# Altium footprint library Control_Module_Footprints.PcbLib: 19 footprints (part 1 of 2)
Each footprint in its own frame and in the unit in brackets; x right, y up, seen from the top. Pads: shape width x height; smd on the part's side, far side on the other; paste and mask are expansions set on the pad; w line width, h text height; cw(c..) or ccw(c..) is an arc to the next point about the centre after c.
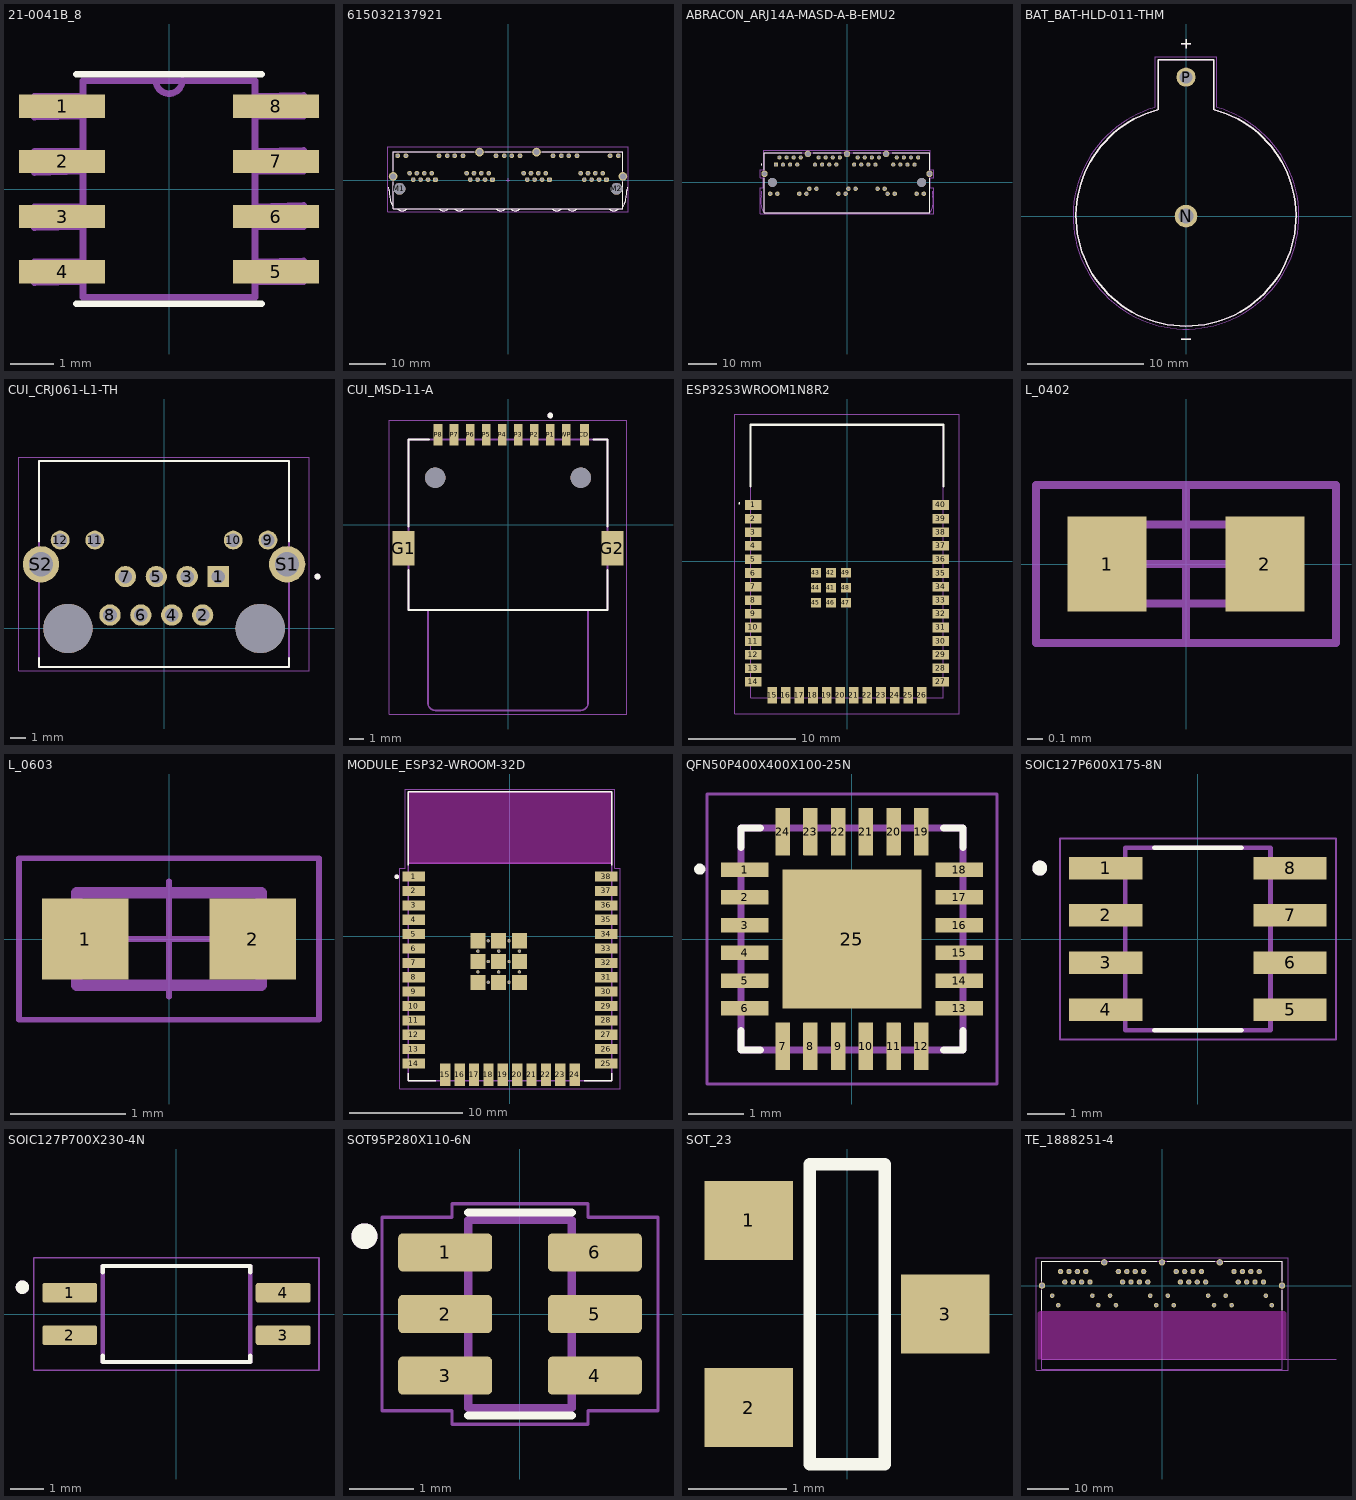
[diagram p0: the footprints below, top view; thin cyan lines are the x and y axes]

## 21-0041B_8 [mil]
pads (8):
  rect 78x21 smd: 1(-97,75) 2(-97,25) 3(-97,-25) 4(-97,-75) 5(97,-75) 6(97,-25) 7(97,25) 8(97,75)
Top Overlay:
  lines w6: -84,-104 84,-104 ; -84,104 84,104
Mechanical 13:
  lines w6: -12,98.08 ccw(c0,98.5) 12,98.92 ; -122,-85 -78,-84 -78,-66 -122,-66 -122,-85 ; -122,-35 -78,-34 -78,-16 -122,-16 -122,-35 ; -122,15 -78,16 -78,34 -122,34 -122,15 ; -122,65 -78,66 -78,84 -122,84 -122,65 ; -78,-98 -78,98 -12,98 78,98 78,-98 -78,-98 ; 78,-84 122,-84 122,-65 78,-66 78,-84 ; 78,-34 122,-34 122,-15 78,-16 78,-34 ; 78,16 122,16 122,35 78,34 78,16 ; 78,66 122,66 122,85 78,84 78,66
3D body "step_temp.STEP": height 68.9, standoff 0, extent -118.11,-96.46 118.11,96.46

## 615032137921 [mm] "Modular Jack Horizontal Shielded Ganged 4 Ports with LED and EMI Panel Finger 8P8C Tab Up"
height 13.25
pads (54):
  rrect50% 1.3x1.3 hole 0.8: A1(-20.055,0.125) B1(-4.305,0.125) C1(11.445,0.125) D1(27.195,0.125)
  round 1.3 hole 0.8: A2(-21.075,1.905) A3(-22.095,0.125) A4(-23.115,1.905) A5(-24.135,0.125) A6(-25.155,1.905) A7(-26.175,0.125) A8(-27.195,1.905) A9(-16.765,6.725) A10(-19.055,6.725) A11(-28.195,6.725) A12(-30.485,6.725) B2(-5.325,1.905) B3(-6.345,0.125) B4(-7.365,1.905) B5(-8.385,0.125) B6(-9.405,1.905) B7(-10.425,0.125) B8(-11.445,1.905) B9(-1.015,6.725) B10(-3.305,6.725) B11(-12.445,6.725) B12(-14.735,6.725) C2(10.425,1.905) C3(9.405,0.125) C4(8.385,1.905) C5(7.365,0.125) C6(6.345,1.905) C7(5.325,0.125) C8(4.305,1.905) C9(14.735,6.725) C10(12.445,6.725) C11(3.305,6.725) C12(1.015,6.725) D2(26.175,1.905) D3(25.155,0.125) D4(24.135,1.905) D5(23.115,0.125) D6(22.095,1.905) D7(21.075,0.125) D8(20.055,1.905) D9(30.485,6.725) D10(28.195,6.725) D11(19.055,6.725) D12(16.765,6.725)
  round 3.25 hole 3.25 unplated: M1(-29.975,-2.415) M2(29.975,-2.415)
  round 2.4 hole 1.6: Shell(-31.75,1.015) Shell(-7.875,7.745) Shell(7.875,7.745) Shell(31.75,1.015)
Top Overlay:
  lines w0.2: -32.974,-1.922 cw(c-35.604,-2.812) -32.835,-3.01 ccw(c-27.155,-3.233) -32.729,-4.348 ccw(c-25.166,-3.555) -32.164,-6.529 cw(c-36.451,-9.075) -31.755,-7.4 ; -31.755,-0.475 -31.755,-7.875 31.755,-7.875 31.755,-0.475 ; -31.755,2.505 -31.755,7.875 -9.355,7.875 ; -30.58,-7.875 ccw(c-29.215,-6.51) -27.85,-7.875 ; -19.15,-7.875 ccw(c-17.785,-6.51) -16.42,-7.875 ; -14.83,-7.875 ccw(c-13.465,-6.51) -12.1,-7.875 ; -6.395,7.875 6.395,7.875 ; -3.4,-7.875 ccw(c-2.035,-6.51) -0.67,-7.875 ; 0.67,-7.875 ccw(c2.035,-6.51) 3.4,-7.875 ; 9.355,7.875 31.755,7.875 31.755,2.505 ; 12.1,-7.875 ccw(c13.465,-6.51) 14.83,-7.875 ; 16.42,-7.875 ccw(c17.785,-6.51) 19.15,-7.875 ; 27.85,-7.875 ccw(c29.215,-6.51) 30.58,-7.875 ; 31.755,-7.4 cw(c36.451,-9.075) 32.164,-6.529 ccw(c25.166,-3.555) 32.729,-4.348 ccw(c27.155,-3.233) 32.835,-3.01 cw(c35.604,-2.812) 32.974,-1.922
Top Courtyard:
  lines w0.05: -33.15,-8.74 -33.15,9.145 33.15,9.145 33.15,-8.74 -33.15,-8.74
Top Designator:
  text ".Designator" at -7.498,-0.5 h1.5
Top Component Outline:
  lines w0.1: -32.974,-1.922 cw(c-35.604,-2.812) -32.835,-3.01 ccw(c-27.155,-3.233) -32.729,-4.348 ccw(c-25.166,-3.555) -32.164,-6.529 cw(c-36.451,-9.075) -31.755,-7.4 ; -30.58,-7.875 ccw(c-29.215,-6.51) -27.85,-7.875 ; -19.15,-7.875 ccw(c-17.785,-6.51) -16.42,-7.875 ; -14.83,-7.875 ccw(c-13.465,-6.51) -12.1,-7.875 ; -3.4,-7.875 ccw(c-2.035,-6.51) -0.67,-7.875 ; 0.67,-7.875 ccw(c2.035,-6.51) 3.4,-7.875 ; 12.1,-7.875 ccw(c13.465,-6.51) 14.83,-7.875 ; 16.42,-7.875 ccw(c17.785,-6.51) 19.15,-7.875 ; 27.85,-7.875 ccw(c29.215,-6.51) 30.58,-7.875 ; 31.755,-7.4 cw(c36.451,-9.075) 32.164,-6.529 ccw(c25.166,-3.555) 32.729,-4.348 ccw(c27.155,-3.233) 32.835,-3.01 cw(c35.604,-2.812) 32.974,-1.922 ; -31.755,-7.875 31.755,-7.875 31.755,7.875 -31.755,7.875 -31.755,-7.875
Top Component Center:
  lines w0.05: -0.5,0 0.5,0 ; 0,-0.5 0,0.5
3D body "615032137921 (rev1).stp": height 14.82, standoff -3.3, extent -33.065,-8.54 33.065,8.05

## ABRACON_ARJ14A-MASD-A-B-EMU2 [mm]
pads (55):
  rect 1.5x1.5 / inner round 1.5 / far side rect 1.5x1.5 hole 0.9: 1_1(-25.4,6.35)
  round 1.5 hole 0.9: 1_2(-11.43,6.35) 1_3(2.54,6.35) 1_4(16.51,6.35) 2_1(-24.13,8.89) 2_2(-10.16,8.89) 2_3(3.81,8.89) 2_4(17.78,8.89) 3_1(-22.86,6.35) 3_2(-8.89,6.35) 3_3(5.08,6.35) 3_4(19.05,6.35) 4_1(-21.59,8.89) 4_2(-7.62,8.89) 4_3(6.35,8.89) 4_4(20.32,8.89) 5_1(-20.32,6.35) 5_2(-6.35,6.35) 5_3(7.62,6.35) 5_4(21.59,6.35) 6_1(-19.05,8.89) 6_2(-5.08,8.89) 6_3(8.89,8.89) 6_4(22.86,8.89) 7_1(-17.78,6.35) 7_2(-3.81,6.35) 7_3(10.16,6.35) 7_4(24.13,6.35) 8_1(-16.51,8.89) 8_2(-2.54,8.89) 8_3(11.43,8.89) 8_4(25.4,8.89)
  round 1.6 hole 1: GA_1(-27.42,-4.06) GA_2(-13.45,-2.28) GA_3(0.52,-2.28) GA_4(14.49,-4.06) GK_1(-24.88,-4.06) GK_2(-10.91,-2.28) GK_3(3.06,-2.28) GK_4(17.03,-4.06) YA_1(-17.03,-4.06) YA_2(-3.06,-4.06) YA_3(10.91,-2.28) YA_4(24.88,-4.06) YK_1(-14.49,-4.06) YK_2(-0.52,-4.06) YK_3(13.45,-2.28) YK_4(27.42,-4.06)
  round 2.3 hole 1.7: P1(-29.465,3.05) P2(29.465,3.05) S1(-13.97,10.16) S2(0,10.16) S3(13.97,10.16)
  round 3.2 hole 3.2 unplated: ""(-26.67,0) ""(26.67,0)
Top Overlay:
  circle w0.2: c-30.5,6.35 r0.1
  lines w0.127: -29.56,1.5 -29.56,-10.9 29.56,-10.9 29.56,1.5 ; -29.56,4.55 -29.56,10.6 -16.245,10.6 ; -12,10.6 -2,10.6 ; 2.275,10.6 12,10.6 ; 16.245,10.6 29.56,10.6 29.56,4.55
Mechanical 13:
  circle w0.2: c-30.5,6.35 r0.1
  lines w0.127: -30.627,-4.704 ccw(c-21.073,-6.561) -30.275,-9.729 ; -30.616,-4.654 ccw(c-41.968,-2.241) -30.449,-3.656 ; -30.571,-3.274 cw(c-30.849,-3.572) -30.445,-3.622 ; -30.27,-9.745 -29.56,-10.9 ; 30.27,-9.745 29.56,-10.9 ; 30.275,-9.729 ccw(c21.073,-6.561) 30.627,-4.704 ; 30.445,-3.622 cw(c30.849,-3.572) 30.571,-3.274 ; 30.449,-3.656 ccw(c41.968,-2.241) 30.616,-4.654 ; -29.56,-10.9 -29.56,10.6 29.56,10.6 29.56,-10.9 ; -29.56,-10.9 29.56,-10.9
Mechanical 15:
  lines w0.05: -31,-11.15 -31,-1.95 -30,-1.95 -30,1.65 -30.9,1.65 -30.9,4.45 -29.81,4.45 -29.81,5.1 -29.81,11.56 29.81,11.56 29.81,4.45 30.9,4.45 30.9,1.65 29.81,1.65 29.81,-1.95 31,-1.95 31,-11.15 -31,-11.15
3D body "step_temp.STEP": height 9.12, standoff -10.21, extent -32.692,-10.75 32.692,10.75

## BAT_BAT-HLD-011-THM [mm]
pads (2):
  round 1.95 hole 1.3: N(0,0)
  round 1.65 hole 1.1: P(0,12)
Top Overlay:
  lines w0.127: -2.459,9.176 ccw(c0,0) 2.459,9.176 ; -2.4,9.192 -2.4,13.5 2.4,13.5 2.4,9.192 ; -0.4,-10.608 0.4,-10.608 ; -0.4,14.892 0.4,14.892 ; 0,14.492 0,15.292
Mechanical 13:
  lines w0.127: -2.459,9.176 ccw(c0,0) 2.459,9.176 ; -2.4,9.192 -2.4,13.5 2.4,13.5 2.4,9.192 ; -0.4,-10.608 0.4,-10.608 ; -0.4,14.892 0.4,14.892 ; 0,14.492 0,15.292
Mechanical 15:
  lines w0.05: -2.687,9.372 ccw(c0,0) 2.687,9.372 ; -2.65,9.383 -2.65,13.75 2.65,13.75 2.65,9.383
3D body "step_temp.STEP": height 6.6, standoff -5.1, extent -9.499,-9.5 9.499,13.5

## CUI_CRJ061-L1-TH [mm]
height 16.43
pads (16):
  rect 1.408x1.408 / inner round 1.408 / far side rect 1.408x1.408 hole 0.9: 1(3.57,3.43)
  round 1.408 hole 0.9: 2(2.55,0.89) 3(1.53,3.43) 4(0.51,0.89) 5(-0.51,3.43) 6(-1.53,0.89) 7(-2.55,3.43) 8(-3.57,0.89)
  round 1.25 hole 0.9: 9(6.86,5.84) 10(4.57,5.84) 11(-4.57,5.84) 12(-6.86,5.84)
  round 2.4 hole 1.6: S1(8.13,4.24) S2(-8.13,4.24)
  round 3.25 hole 3.25 unplated: ""(-6.35,0) ""(6.35,0)
Top Overlay:
  circle w0.2: c10.135,3.43 r0.1
  lines w0.127: -8.25,-1.945 -8.25,-2.54 8.25,-2.54 8.25,-1.945 ; -8.25,5.76 -8.25,11.06 8.25,11.06 8.25,5.76
Mechanical 13:
  circle w0.2: c10.135,3.43 r0.1
  lines w0.127: -8.25,-2.54 8.25,-2.54 8.25,11.06 -8.25,11.06 -8.25,-2.54
Mechanical 15:
  lines w0.05: -9.58,-2.79 -9.58,11.31 9.58,11.31 9.58,-2.79 -9.58,-2.79
3D body "step_temp.STEP": height 16.28, standoff -4, extent -8.4,-2.54 8.4,11.06

## CUI_MSD-11-A [mm] "JLCPCB PART C693845"
height 2.05
pads (14):
  rect 0.6x1.5 smd: CD(5.25,6.18) P1(2.9,6.18) P2(1.8,6.18) P3(0.7,6.18) P4(-0.4,6.18) P5(-1.5,6.18) P6(-2.6,6.18) P7(-3.7,6.18) P8(-4.8,6.18) WP(4,6.18)
  rect 1.5x2.34 smd: G1(-7.17,-1.62) G2(7.17,-1.62)
  round 1.4 hole 1.4 unplated: ""(-5,3.23) ""(5,3.23)
Top Overlay:
  circle w0.2: c2.9,7.5 r0.1
  lines w0.127: -6.84,-3.11 -6.84,-5.85 6.84,-5.85 6.84,-3.11 ; -6.84,-0.12 -6.84,5.85 -5.42,5.85 ; 5.87,5.85 6.84,5.85 6.84,-0.12
Mechanical 13:
  circle w0.2: c2.9,7.5 r0.1
  lines w0.127: -5.5,-5.85 -5.5,-12.25 ccw(c-5,-12.25) -5,-12.75 5,-12.75 ccw(c5,-12.25) 5.5,-12.25 5.5,-5.85 ; -5.5,-5.85 -6.84,-5.85 -6.84,5.85 6.84,5.85 6.84,-5.85 5.5,-5.85 ; -5.5,-5.85 5.5,-5.85
Mechanical 15:
  lines w0.05: -8.17,-13 -8.17,7.18 8.17,7.18 8.17,-13 -8.17,-13
3D body "step_temp.STEP": height 7.2, standoff 4.85, extent -7.39,-6.3 7.39,6.3

## ESP32S3WROOM1N8R2 [mm]
pads (49):
  rect 1.5x0.9 smd: 1(-8.75,5.26) 2(-8.75,3.99) 3(-8.75,2.72) 4(-8.75,1.45) 5(-8.75,0.18) 6(-8.75,-1.09) 7(-8.75,-2.36) 8(-8.75,-3.63) 9(-8.75,-4.9) 10(-8.75,-6.17) 11(-8.75,-7.44) 12(-8.75,-8.71) 13(-8.75,-9.98) 14(-8.75,-11.25) 27(8.75,-11.25) 28(8.75,-9.98) 29(8.75,-8.71) 30(8.75,-7.44) 31(8.75,-6.17) 32(8.75,-4.9) 33(8.75,-3.63) 34(8.75,-2.36) 35(8.75,-1.09) 36(8.75,0.18) 37(8.75,1.45) 38(8.75,2.72) 39(8.75,3.99) 40(8.75,5.26)
  rect 0.9x1.5 smd: 15(-6.985,-12.5) 16(-5.715,-12.5) 17(-4.445,-12.5) 18(-3.175,-12.5) 19(-1.905,-12.5) 20(-0.635,-12.5) 21(0.635,-12.5) 22(1.905,-12.5) 23(3.175,-12.5) 24(4.445,-12.5) 25(5.715,-12.5) 26(6.985,-12.5)
  rect 0.9x0.9 smd: 41(-1.5,-2.46) 42(-1.5,-1.06) 43(-2.9,-1.06) 44(-2.9,-2.46) 45(-2.9,-3.86) 46(-1.5,-3.86) 47(-0.1,-3.86) 48(-0.1,-2.46) 49(-0.1,-1.06)
Top Overlay:
  lines w0.1: -10.1,5.4 cw(c-10.05,5.4) -10,5.4 cw(c-10.05,5.4) -10.1,5.4
  lines w0.2: -9,7 -9,12.75 9,12.75 9,7
Mechanical 13:
  lines w0.1: -10.5,-14.25 10.5,-14.25 10.5,13.75 -10.5,13.75 -10.5,-14.25 ; -9,-12.75 9,-12.75 9,12.75 -9,12.75 -9,-12.75
3D body "step_temp.STEP": height 3.25, standoff 0, extent -9,-12.75 9,12.75

## L_0402 [mm]
height 0.5
pads (2):
  rect 0.5x0.6 smd: 1(-0.5,0) 2(0.5,0)
Top Courtyard:
  lines w0.05: -0.5,0 0.5,0 ; 0,-0.5 0,0.5 ; -0.95,-0.5 0.95,-0.5 0.95,0.5 -0.95,0.5 -0.95,-0.5
Top Designator:
  text ".Designator" at -2.499,-0.167 h0.5
Top Component Outline:
  lines w0.05: -0.5,-0.25 0.5,-0.25 0.5,0.25 -0.5,0.25 -0.5,-0.25
3D body "WE-CBF_HF_0402_1.stp": height 0.5, standoff 0, extent -0.5,-0.25 0.5,0.25

## L_0603 [mm]
height 0.8
pads (2):
  rect 0.75x0.7 smd: 1(-0.725,0) 2(0.725,0)
Top Courtyard:
  lines w0.05: -0.5,0 0.5,0 ; 0,-0.5 0,0.5 ; -1.3,-0.7 -1.3,0.7 1.3,0.7 1.3,-0.7 -1.3,-0.7
Top Designator:
  text ".Designator" at -2.499,-0.167 h0.5
Top Component Outline:
  lines w0.1: -0.8,-0.4 -0.8,0.4 0.8,0.4 0.8,-0.4 -0.8,-0.4
3D body "WE-CBF_HF_0603_1.stp": height 0.8, standoff 0, extent -0.8,-0.4 0.8,0.4

## MODULE_ESP32-WROOM-32D [mm]
height 3.2
pads (59):
  rect 2x0.9 smd: 1(-8.5,5.26) 2(-8.5,3.99) 3(-8.5,2.72) 4(-8.5,1.45) 5(-8.5,0.18) 6(-8.5,-1.09) 7(-8.5,-2.36) 8(-8.5,-3.63) 9(-8.5,-4.9) 10(-8.5,-6.17) 11(-8.5,-7.44) 12(-8.5,-8.71) 13(-8.5,-9.98) 14(-8.5,-11.25) 25(8.5,-11.25) 26(8.5,-9.98) 27(8.5,-8.71) 28(8.5,-7.44) 29(8.5,-6.17) 30(8.5,-4.9) 31(8.5,-3.63) 32(8.5,-2.36) 33(8.5,-1.09) 34(8.5,0.18) 35(8.5,1.45) 36(8.5,2.72) 37(8.5,3.99) 38(8.5,5.26)
  rect 0.9x2 smd: 15(-5.715,-12.25) 16(-4.445,-12.25) 17(-3.175,-12.25) 18(-1.905,-12.25) 19(-0.635,-12.25) 20(0.635,-12.25) 21(1.905,-12.25) 22(3.175,-12.25) 23(4.445,-12.25) 24(5.715,-12.25)
  rect 1.33x1.33 smd: 39_1(-2.835,-0.405) 39_2(-1,-0.405) 39_3(0.835,-0.405) 39_4(-2.835,-2.24) 39_5(-1,-2.24) 39_6(0.835,-2.24) 39_7(-2.835,-4.075) 39_8(-1,-4.075) 39_9(0.835,-4.075)
  round 0.3 hole 0.2: 39_10(-1.917,-0.405) 39_11(-0.082,-0.405) 39_12(-2.835,-1.322) 39_13(-1,-1.322) 39_14(0.835,-1.322) 39_15(-1.917,-2.24) 39_16(-0.082,-2.24) 39_17(-2.835,-3.157) 39_18(-1,-3.157) 39_19(0.835,-3.157) 39_20(-1.917,-4.075) 39_21(-0.082,-4.075)
Top Overlay:
  circle w0.2: c-10,5.25 r0.1
  lines w0.127: -9,-12.1 -9,-12.75 -6.55,-12.75 ; -9,6.25 -9,12.75 9,12.75 9,6.25 ; 6.55,-12.75 9,-12.75 9,-12.1
Keep-Out Layer:
  region: 9,6.45 -9,6.45 -9,12.75 9,12.75
Mechanical 13:
  circle w0.2: c-10,5.25 r0.1
  lines w0.127: -9,6.45 -9,-12.75 9,-12.75 9,6.45 ; -9,6.45 -9,12.75 9,12.75 9,6.45 ; -9,6.45 9,6.45
  text "ANTENNA" at -6,9 h1.78
Mechanical 15:
  lines w0.05: -9.75,-13.5 9.75,-13.5 9.75,6 9.25,6 9.25,13 -9.25,13 -9.25,6 -9.75,6 -9.75,-13.5
3D body "step_temp.STEP": height 3.25, standoff 0, extent -9,-12.75 9,12.75

## QFN50P400X400X100-25N [mm]
pads (25):
  rrect7% 0.86x0.26 smd: 1(-1.935,1.25) 2(-1.935,0.75) 3(-1.935,0.25) 4(-1.935,-0.25) 5(-1.935,-0.75) 6(-1.935,-1.25) 13(1.935,-1.25) 14(1.935,-0.75) 15(1.935,-0.25) 16(1.935,0.25) 17(1.935,0.75) 18(1.935,1.25)
  rrect7% 0.26x0.86 smd: 7(-1.25,-1.935) 8(-0.75,-1.935) 9(-0.25,-1.935) 10(0.25,-1.935) 11(0.75,-1.935) 12(1.25,-1.935) 19(1.25,1.935) 20(0.75,1.935) 21(0.25,1.935) 22(-0.25,1.935) 23(-0.75,1.935) 24(-1.25,1.935)
  rect 2.5x2.5 smd paste-2: 25(0,0)
Top Overlay:
  circle w0.1: c-2.745,1.26 r0.05
  lines w0.127: -2,-1.65 -2,-2 -1.65,-2 ; -2,1.65 -2,2 -1.65,2 ; 1.65,-2 2,-2 2,-1.65 ; 1.65,2 2,2 2,1.65
Top Paste:
  region: 1.09,0.17 0.17,0.17 0.17,1.09 1.09,1.09
  region: -0.17,0.17 -1.091,0.17 -1.091,1.09 -0.17,1.09
  region: -0.17,-1.092 -1.092,-1.092 -1.092,-0.17 -0.17,-0.17
  region: 1.09,-1.09 0.17,-1.09 0.17,-0.17 1.09,-0.17
Mechanical 13:
  circle w0.1: c-2.195,1.26 r0.05
  lines w0.127: -2,-2 2,-2 2,2 -2,2 -2,-2
Mechanical 15:
  lines w0.05: -2.615,-2.615 2.615,-2.615 2.615,2.615 -2.615,2.615 -2.615,-2.615
3D body "step_temp.STEP": height 0.95, standoff -0.05, extent -2,-2 2,2

## SOIC127P600X175-8N [mm]
height 1.75
pads (8):
  rect 1.97x0.6 smd: 1(-2.475,1.905) 2(-2.475,0.635) 3(-2.475,-0.635) 4(-2.475,-1.905) 5(2.475,-1.905) 6(2.475,-0.635) 7(2.475,0.635) 8(2.475,1.905)
Top Overlay:
  circle w0.2: c-4.25,1.905 r0.1
  lines w0.127: -1.17,-2.45 1.17,-2.45 ; -1.17,2.45 1.17,2.45
Mechanical 13:
  circle w0.2: c-4.25,1.905 r0.1
  lines w0.127: -1.95,-2.45 -1.95,2.45 1.95,2.45 1.95,-2.45 -1.95,-2.45
Mechanical 15:
  lines w0.05: -3.71,-2.7 -3.71,2.7 3.71,2.7 3.71,-2.7 -3.71,-2.7
3D body "step_temp.STEP": height 1.75, standoff 0, extent -3,-2.45 3,2.45

## SOIC127P700X230-4N [mm]
height 2.3
pads (4):
  rrect25% 1.64x0.59 smd: 1(-3.185,0.635) 2(-3.185,-0.635) 3(3.185,-0.635) 4(3.185,0.635)
Top Overlay:
  circle w0.2: c-4.6,0.8 r0.1
  lines w0.127: -2.2,-1.245 -2.2,-1.43 2.2,-1.43 2.2,-1.245 ; -2.2,1.245 -2.2,1.43 2.2,1.43 2.2,1.245
Mechanical 13:
  circle w0.2: c-4.6,0.8 r0.1
  lines w0.127: -2.2,-1.43 2.2,-1.43 2.2,1.43 -2.2,1.43 -2.2,-1.43
Mechanical 15:
  lines w0.05: -4.255,-1.68 4.255,-1.68 4.255,1.68 -4.255,1.68 -4.255,-1.68
3D body "step_temp.STEP": height 2.1, standoff 0, extent -3.5,-1.3 3.5,1.3

## SOT95P280X110-6N [mm]
pads (6):
  rrect25% 1.45x0.59 smd: 1(-1.155,0.95) 2(-1.155,0) 3(-1.155,-0.95) 4(1.155,-0.95) 5(1.155,0) 6(1.155,0.95)
Top Overlay:
  circle w0.2: c-2.4,1.2 r0.1
  lines w0.127: -0.8,-1.565 0.8,-1.565 ; -0.8,1.565 0.8,1.565
Mechanical 13:
  circle w0.2: c-2.4,1.2 r0.1
  lines w0.127: -0.8,-1.45 -0.8,1.45 0.8,1.45 0.8,-1.45 -0.8,-1.45
Mechanical 15:
  lines w0.05: -2.13,-1.495 -2.13,1.495 -1.05,1.495 -1.05,1.7 1.05,1.7 1.05,1.495 2.13,1.495 2.13,-1.495 1.05,-1.495 1.05,-1.7 -1.05,-1.7 -1.05,-1.495 -2.13,-1.495
3D body "step_temp.STEP": height 1.1, standoff 0, extent -1.4,-1.45 1.4,1.45

## SOT_23 [mm]
pads (3):
  rect 0.9x0.8 smd: 1(-1,0.95) 2(-1,-0.95) 3(1,0)
Top Overlay:
  lines w0.127: -0.381,-1.524 -0.381,1.524 0.381,1.524 0.381,-1.524 -0.381,-1.524
3D body "User Library-SOT95P240X110-3M[SOT23-3_TO-236AB].STEP": height 1.09, standoff 0, extent -1.189,-1.482 1.311,1.518

## TE_1888251-4 [mm]
height 13.78
pads (53):
  round 1.3 hole 0.8: P1_1(-24.511,3.39) P1_2(-23.495,0.85) P1_3(-22.479,3.39) P1_4(-21.463,0.85) P1_5(-20.447,3.39) P1_6(-19.431,0.85) P1_7(-18.415,3.39) P1_8(-17.399,0.85) P2_1(-10.541,3.39) P2_2(-9.525,0.85) P2_3(-8.509,3.39) P2_4(-7.493,0.85) P2_5(-6.477,3.39) P2_6(-5.461,0.85) P2_7(-4.445,3.39) P2_8(-3.429,0.85) P3_1(3.429,3.39) P3_2(4.445,0.85) P3_3(5.461,3.39) P3_4(6.477,0.85) P3_5(7.493,3.39) P3_6(8.509,0.85) P3_7(9.525,3.39) P3_8(10.541,0.85) P4_1(17.399,3.39) P4_2(18.415,0.85) P4_3(19.431,3.39) P4_4(20.447,0.85) P4_5(21.463,3.39) P4_6(22.479,0.85) P4_7(23.495,3.39) P4_8(24.511,0.85)
  round 1.1 hole 0.6: P1_9(-16.815,-2.45) P1_10(-15.375,-4.75) P1_11(-26.535,-2.45) P1_12(-25.095,-4.75) P2_9(-2.845,-2.45) P2_10(-1.405,-4.75) P2_11(-12.565,-2.45) P2_12(-11.125,-4.75) P3_9(11.125,-2.45) P3_10(12.565,-4.75) P3_11(1.405,-2.45) P3_12(2.845,-4.75) P4_9(25.095,-2.45) P4_10(26.535,-4.75) P4_11(15.375,-2.45) P4_12(16.815,-4.75)
  round 1.55 hole 1.05: SH1(-29,0) SH2(-13.97,5.6) SH3(29,0) SH4(0,5.6) SH5(13.97,5.6)
Top Overlay:
  lines w0.127: -29.1,-6 -29.1,-1.095 ; -29.1,1.095 -29.1,5.9 -15.065,5.9 ; -12.75,5.9 -1.25,5.9 ; 1.22,5.9 12.72,5.9 ; 15.065,5.9 29.1,5.9 29.1,1.095 ; 29.1,-6 29.1,-1.095
Keep-Out Layer:
  board cut-out: 30,-6.75 30,-17.84 -30,-17.84 -30,-6.75 -29.999,-6.724 -29.997,-6.698 -29.994,-6.672 -29.989,-6.646 -29.983,-6.621 -29.976,-6.595 -29.967,-6.571 -29.957,-6.547 -29.946,-6.523 -29.933,-6.5 -29.919,-6.478 -29.905,-6.456 -29.889,-6.435 -29.872,-6.415 -29.854,-6.396 -29.835,-6.378 -29.815,-6.361 -29.794,-6.345 -29.772,-6.331 -29.75,-6.317 -29.727,-6.304 -29.703,-6.293 -29.679,-6.283 -29.655,-6.274 -29.629,-6.267 -29.604,-6.261 -29.578,-6.256 -29.552,-6.253 -29.526,-6.251 -29.5,-6.25 29.5,-6.25 29.526,-6.251 29.552,-6.253 29.578,-6.256 29.604,-6.261 29.629,-6.267 29.655,-6.274 29.679,-6.283 29.703,-6.293 29.727,-6.304 29.75,-6.317 29.772,-6.331 29.794,-6.345 29.815,-6.361 29.835,-6.378 29.854,-6.396 29.872,-6.415 29.889,-6.435 29.905,-6.456 29.919,-6.478 29.933,-6.5 29.946,-6.523 29.957,-6.547 29.967,-6.571 29.976,-6.595 29.983,-6.621 29.989,-6.646 29.994,-6.672 29.997,-6.698 29.999,-6.724
Mechanical 13:
  lines w0.127: 42.04,-17.84 -29.1,-17.84 ; -29.1,-17.84 -29.1,5.9 29.1,5.9 29.1,-20.24 -29.1,-20.24 -29.1,-17.84
  text "PCB EDGE" at 32.277,-17.229 h1.27
Mechanical 15:
  lines w0.05: -30.45,-20.49 -30.45,6.75 30.45,6.75 30.45,-20.49 -30.45,-20.49
3D body "step_temp.STEP": height 6.18, standoff -7.2, extent -30,-0.195 30,26.95